# Altium integrated library LMT01LPG.IntLib: 1 symbol
Pins are listed as number, name and electrical type; pins without a type are passive.

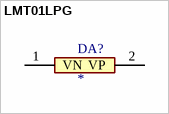
[diagram p0: symbol LMT01LPG]

## LMT01LPG
designator DA?
0.5Â°C Accurate 2-pin Temperature Sensor with a Pulse Train Interface; MP: LMT01LPG; MF: Texas Instruments; Availability: In Stock; Value: *; Check_prices: https://www.snapeda.com/parts/LMT01LPG/Texas+Instruments/view-part/?ref=eda; Package: TO-92-2 Texas Instruments; Price: None; SnapEDA_Link: https://www.snapeda.com/parts/LMT01LPG/Texas+Instruments/view-part/?ref=snap; Purchase-URL: https://pricing.snapeda.com/search/part/LMT01LPG/?ref=eda
footprint LPG0002A
pins: 1 VN, 2 VP